# Altium integrated library 5-102618-1.IntLib: 1 symbol
Pins are listed as number, name and electrical type; pins without a type are passive.

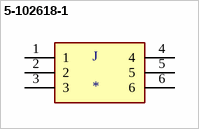
[diagram p0: symbol 5-102618-1]

## 5-102618-1
designator J
Header,  Through Hole;  Shrouded;  Vertical;  Phosphor Bronze;  Thermoplastic; MF: TE Connectivity; MP: 5-102618-1; Value: *; Availability: Unavailable; Package: None; Price: None; SnapEDA_Link: https://www.snapeda.com/parts/5-102618-1/TE%20Connectivity%20AMP%20Connectors/view-part/303887/?ref=snap
footprint TE_5-102618-1
pins: 1, 2, 3, 4, 5, 6